# Altium schematic symbol library UBX-M8030-KT.SchLib: 2 symbols
Pins are listed as number, name and electrical type; pins without a type are passive.

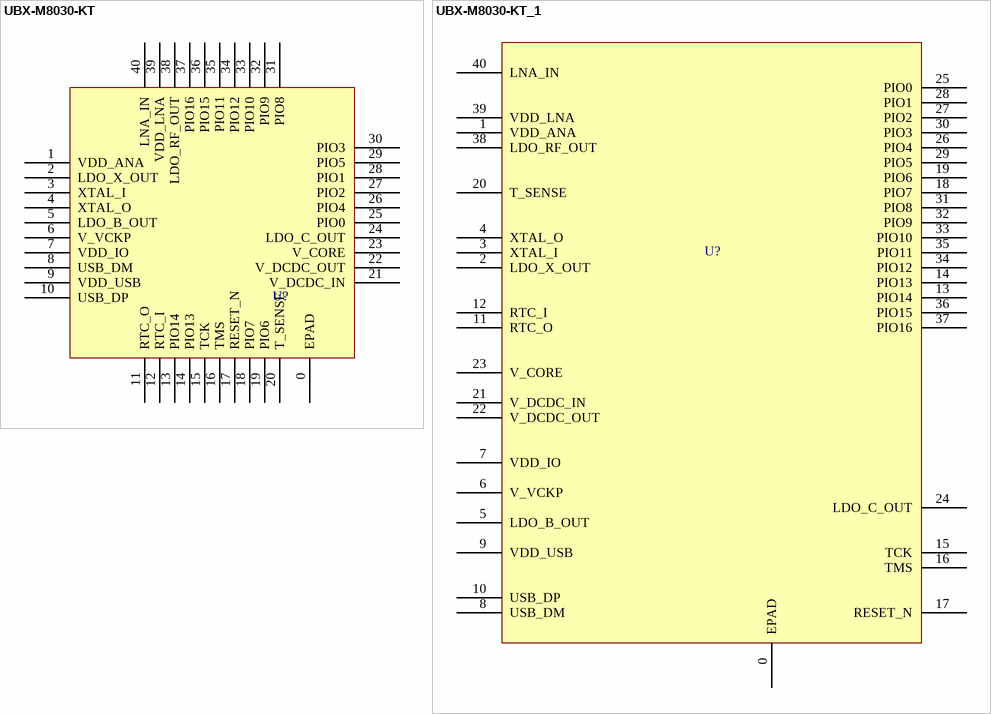
[diagram p0: symbols UBX-M8030-KT to UBX-M8030-KT_1]

## UBX-M8030-KT
designator U?  (value not drawn)
footprint UBX-M8030-KT
pins: 0 EPAD, 1 VDD_ANA, 2 LDO_X_OUT, 3 XTAL_I, 4 XTAL_O, 5 LDO_B_OUT, 6 V_VCKP, 7 VDD_IO, 8 USB_DM, 9 VDD_USB, 10 USB_DP, 11 RTC_O, 12 RTC_I, 13 PIO14, 14 PIO13, 15 TCK, 16 TMS, 17 RESET_N, 18 PIO7, 19 PIO6, 20 T_SENSE, 21 V_DCDC_IN, 22 V_DCDC_OUT, 23 V_CORE, 24 LDO_C_OUT, 25 PIO0, 26 PIO4, 27 PIO2, 28 PIO1, 29 PIO5, 30 PIO3, 31 PIO8, 32 PIO9, 33 PIO10, 34 PIO12, 35 PIO11, 36 PIO15, 37 PIO16, 38 LDO_RF_OUT, 39 VDD_LNA, 40 LNA_IN

## UBX-M8030-KT_1
designator U?  (value not drawn)
footprint UBX-M8030-KT
pins: 0 EPAD, 1 VDD_ANA, 2 LDO_X_OUT, 3 XTAL_I, 4 XTAL_O, 5 LDO_B_OUT, 6 V_VCKP, 7 VDD_IO, 8 USB_DM, 9 VDD_USB, 10 USB_DP, 11 RTC_O, 12 RTC_I, 13 PIO14, 14 PIO13, 15 TCK, 16 TMS, 17 RESET_N, 18 PIO7, 19 PIO6, 20 T_SENSE, 21 V_DCDC_IN, 22 V_DCDC_OUT, 23 V_CORE, 24 LDO_C_OUT, 25 PIO0, 26 PIO4, 27 PIO2, 28 PIO1, 29 PIO5, 30 PIO3, 31 PIO8, 32 PIO9, 33 PIO10, 34 PIO12, 35 PIO11, 36 PIO15, 37 PIO16, 38 LDO_RF_OUT, 39 VDD_LNA, 40 LNA_IN